# Altium footprint library CKSR25NP.PcbLib: 1 footprints
Each footprint in its own frame and in the unit in brackets; x right, y up, seen from the top. Pads: shape width x height; smd on the part's side, far side on the other; paste and mask are expansions set on the pad; w line width, h text height; cw(c..) or ccw(c..) is an arc to the next point about the centre after c.
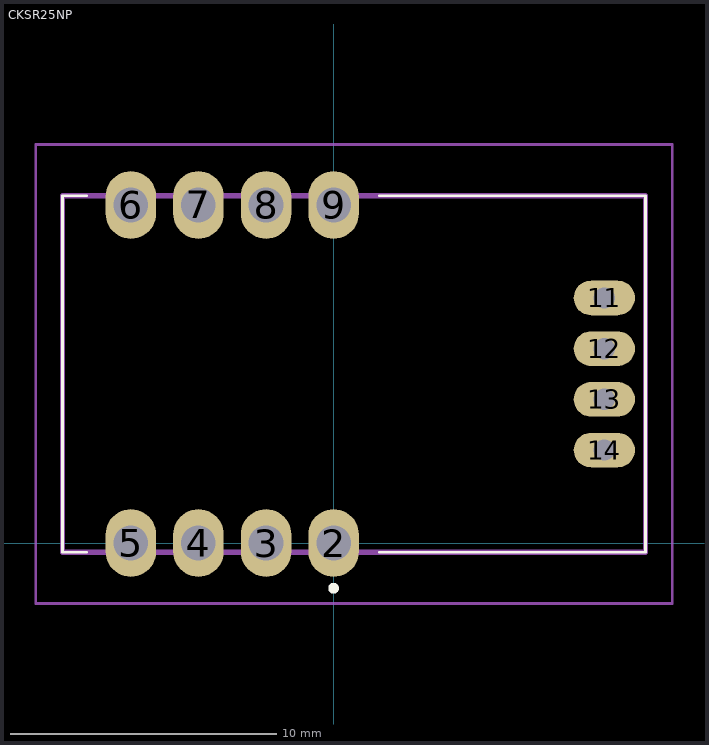
[diagram p0: the footprint, top view; thin cyan lines are the x and y axes]

## CKSR25NP [mm]
pads (12):
  oval 1.9x2.54 hole 1.3: 2(0,0) 3(-2.54,0) 4(-5.08,0) 5(-7.62,0) 6(-7.62,12.7) 7(-5.08,12.7) 8(-2.54,12.7) 9(0,12.7)
  oval 2.3x1.3 hole 0.8: 11(10.17,9.207) 12(10.17,7.303) 13(10.17,5.397) 14(10.17,3.492)
Top Overlay:
  lines w0.1: -9.28,-0.35 -10.19,-0.35 -10.19,13.05 -9.28,13.05 ; 1.72,-0.35 11.72,-0.35 11.72,13.05 1.72,13.05
  lines w0.2: 0,-1.8 cw(c0,-1.7) 0,-1.6 ; 0,-1.8 0,-1.8 ; 0,-1.8 ccw(c0,-1.7) 0,-1.6 ; 0,-1.6 0,-1.6
Mechanical 15:
  lines w0.2: -10.19,-0.35 11.72,-0.35 11.72,13.05 -10.19,13.05 -10.19,-0.35
Mechanical 20:
  lines w0.1: -11.19,-2.27 -11.19,14.97 12.72,14.97 12.72,-2.27 -11.19,-2.27